# Altium footprint library 8-TSSOP.PcbLib: 1 footprints
Each footprint in its own frame and in the unit in brackets; x right, y up, seen from the top. Pads: shape width x height; smd on the part's side, far side on the other; paste and mask are expansions set on the pad; w line width, h text height; cw(c..) or ccw(c..) is an arc to the next point about the centre after c.
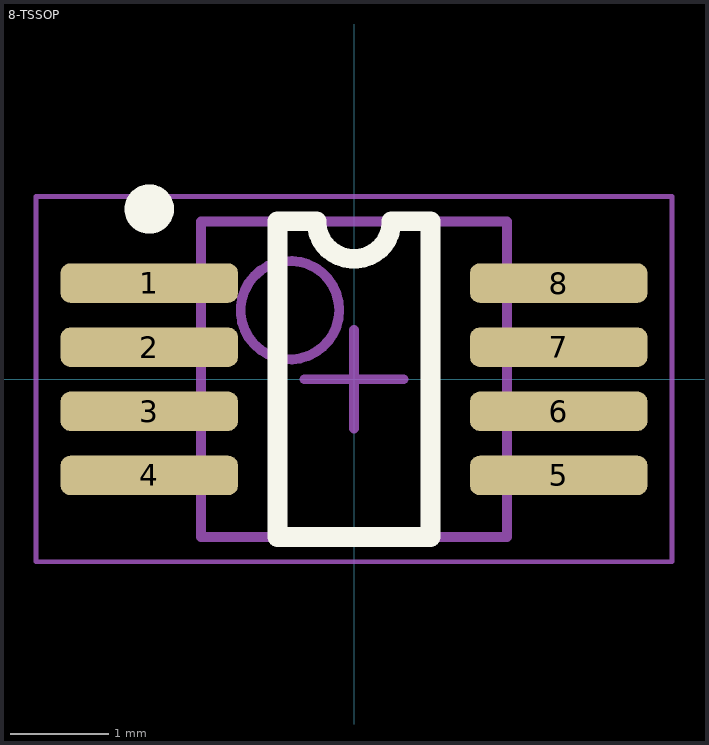
[diagram p0: the footprint, top view; thin cyan lines are the x and y axes]

## 8-TSSOP [mm] "TSSOP, 8-Leads, Body 3.00x2.95mm, Pitch 0.65mm, IPC Medium Density"
height 1.1
pads (8):
  rrect50% 1.8x0.4 smd: 1(-2.075,0.975) 2(-2.075,0.325) 3(-2.075,-0.325) 4(-2.075,-0.975) 5(2.075,-0.975) 6(2.075,-0.325) 7(2.075,0.325) 8(2.075,0.975)
Top Overlay:
  circle w0.25: c-2.075,1.725 r0.125
  lines w0.2: -0.775,-1.6 -0.775,1.6 -0.381,1.6 ccw(c0,1.6) 0.381,1.6 0.775,1.6 0.775,-1.6 -0.775,-1.6
Mechanical 13:
  circle w0.1: c-0.65,0.7 r0.5
  lines w0.1: -1.55,-1.6 -1.55,1.6 1.55,1.6 1.55,-1.6 -1.55,-1.6
Mechanical 15:
  lines w0.05: -3.225,-1.85 -3.225,1.85 3.225,1.85 3.225,-1.85 -3.225,-1.85
  lines w0.1: -0.5,0 0.5,0 ; 0,-0.5 0,0.5
3D body: height 1.1, standoff 0, extent -1.55,-1.6 1.55,1.6